# EAGLE library part S-PPU1(5C77) (library snes_mb)
Picture Processing Unit
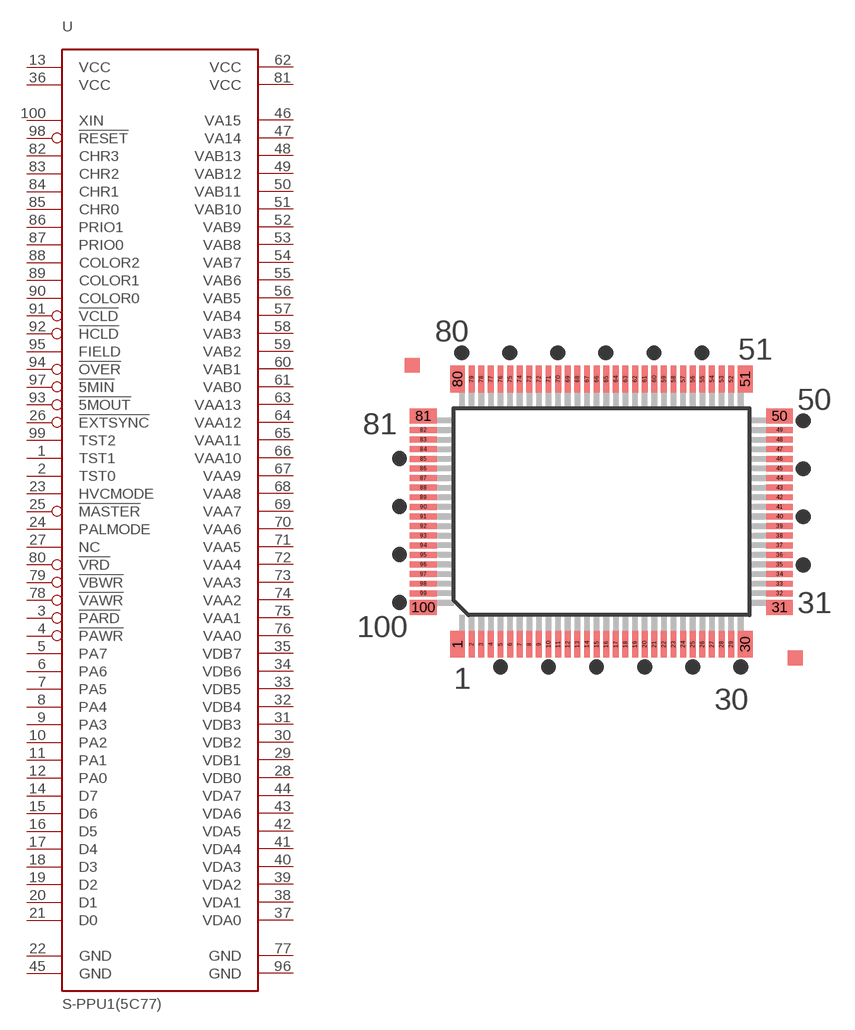
[diagram p3: symbol with the pads of 100QFP0.65; footprint 100QFP0.65]

Designator prefix U

## S-PPU1(5C77)  [100QFP0.65]
1  TST1
2  TST0
3  !PARD
4  !PAWR
5  PA7
6  PA6
7  PA5
8  PA4
9  PA3
10  PA2
11  PA1
12  PA0
13  VCC  pwr
14  D7
15  D6
16  D5
17  D4
18  D3
19  D2
20  D1
21  D0
22  GND  pwr
23  HVCMODE
24  PALMODE
25  !MASTER
26  !EXTSYNC
27  NC
28  VDB0
29  VDB1
30  VDB2
31  VDB3
32  VDB4
33  VDB5
34  VDB6
35  VDB7
36  VCC  pwr
37  VDA0
38  VDA1
39  VDA2
40  VDA3
41  VDA4
42  VDA5
43  VDA6
44  VDA7
45  GND  pwr
46  VA15
47  VA14
48  VAB13
49  VAB12
50  VAB11
51  VAB10
52  VAB9
53  VAB8
54  VAB7
55  VAB6
56  VAB5
57  VAB4
58  VAB3
59  VAB2
60  VAB1
61  VAB0
62  VCC  pwr
63  VAA13
64  VAA12
65  VAA11
66  VAA10
67  VAA9
68  VAA8
69  VAA7
70  VAA6
71  VAA5
72  VAA4
73  VAA3
74  VAA2
75  VAA1
76  VAA0
77  GND  pwr
78  !VAWR
79  !VBWR
80  !VRD
81  VCC  pwr
82  CHR3
83  CHR2
84  CHR1
85  CHR0
86  PRIO1
87  PRIO0
88  COLOR2
89  COLOR1
90  COLOR0
91  !VCLD
92  !HCLD
93  !5MOUT
94  !OVER
95  FIELD
96  GND  pwr
97  !5MIN
98  !RESET
99  TST2
100  XIN

## Footprint 100QFP0.65 (pad centres in mm)
smd 1 x 1.8: 1 -9.725,-8.975; 30 9.725,-8.975; 51 9.725,8.975; 80 -9.725,8.975
smd 0.4 x 1.8: 2 -8.775,-8.975; 3 -8.125,-8.975; 4 -7.475,-8.975; 5 -6.825,-8.975; 6 -6.175,-8.975; 7 -5.525,-8.975; 8 -4.875,-8.975; 9 -4.225,-8.975; 10 -3.575,-8.975; 11 -2.925,-8.975; 12 -2.275,-8.975; 13 -1.625,-8.975; 14 -0.975,-8.975; 15 -0.325,-8.975; 16 0.325,-8.975; 17 0.975,-8.975; 18 1.625,-8.975; 19 2.275,-8.975; 20 2.925,-8.975; 21 3.575,-8.975; 22 4.225,-8.975; 23 4.875,-8.975; 24 5.525,-8.975; 25 6.175,-8.975; 26 6.825,-8.975; 27 7.475,-8.975; 28 8.125,-8.975; 29 8.775,-8.975; 52 8.775,8.975; 53 8.125,8.975; 54 7.475,8.975; 55 6.825,8.975; 56 6.175,8.975; 57 5.525,8.975; 58 4.875,8.975; 59 4.225,8.975; 60 3.575,8.975; 61 2.925,8.975; 62 2.275,8.975; 63 1.625,8.975; 64 0.975,8.975; 65 0.325,8.975; 66 -0.325,8.975; 67 -0.975,8.975; 68 -1.625,8.975; 69 -2.275,8.975; 70 -2.925,8.975; 71 -3.575,8.975; 72 -4.225,8.975; 73 -4.875,8.975; 74 -5.525,8.975; 75 -6.175,8.975; 76 -6.825,8.975; 77 -7.475,8.975; 78 -8.125,8.975; 79 -8.775,8.975
smd 1.8 x 1: 31 12.045,-6.475; 50 12.045,6.475; 81 -12.045,6.475; 100 -12.045,-6.475
smd 1.8 x 0.4: 32 12.045,-5.525; 33 12.045,-4.875; 34 12.045,-4.225; 35 12.045,-3.575; 36 12.045,-2.925; 37 12.045,-2.275; 38 12.045,-1.625; 39 12.045,-0.975; 40 12.045,-0.325; 41 12.045,0.325; 42 12.045,0.975; 43 12.045,1.625; 44 12.045,2.275; 45 12.045,2.925; 46 12.045,3.575; 47 12.045,4.225; 48 12.045,4.875; 49 12.045,5.525; 82 -12.045,5.525; 83 -12.045,4.875; 84 -12.045,4.225; 85 -12.045,3.575; 86 -12.045,2.925; 87 -12.045,2.275; 88 -12.045,1.625; 89 -12.045,0.975; 90 -12.045,0.325; 91 -12.045,-0.325; 92 -12.045,-0.975; 93 -12.045,-1.625; 94 -12.045,-2.275; 95 -12.045,-2.925; 96 -12.045,-3.575; 97 -12.045,-4.225; 98 -12.045,-4.875; 99 -12.045,-5.525